# EAGLE library part RFM12 (library KaiBader)
The RFM12 is an ISM band FSK transceiver module. It operates in the 434 MHz band and fully complies with FCC and ETSI regulations.
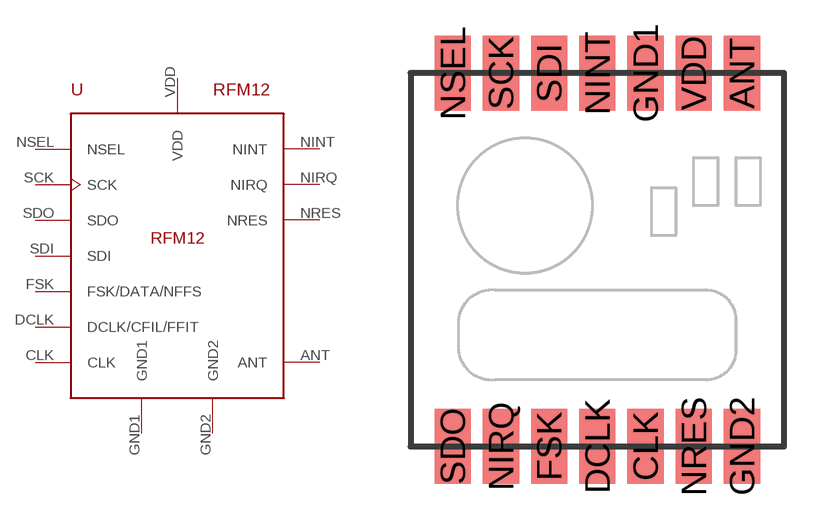
[diagram p7: symbol with the pads of RFM12; footprint RFM12]

Designator prefix U

## RFM12  [RFM12]
ANT  ANT  out
CLK  CLK
DCLK  DCLK/CFIL/FFIT
FSK  FSK/DATA/NFFS
GND1  GND1  pwr
GND2  GND2  pwr
NINT  NINT
NIRQ  NIRQ
NRES  NRES
NSEL  NSEL  in
SCK  SCK  in
SDI  SDI  in
SDO  SDO
VDD  VDD  pwr

## Footprint RFM12 (pad centres in mm)
RFM12 module
smd 1.524 x 3.175: ANT 5.715,7.493; CLK 1.651,-8.255; DCLK -0.381,-8.255; FSK -2.413,-8.255; GND1 1.651,7.493; GND2 5.715,-8.255; NINT -0.381,7.493; NIRQ -4.445,-8.255; NRES 3.683,-8.255; NSEL -6.477,7.493; SCK -4.445,7.493; SDI -2.413,7.493; SDO -6.477,-8.255; VDD 3.683,7.493